# Altium schematic symbol library TSHG6200.SchLib: 1 symbol
Pins are listed as number, name and electrical type; pins without a type are passive.

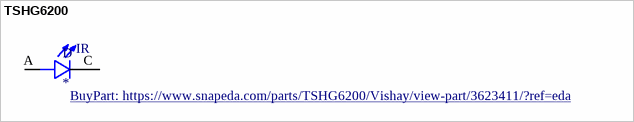
[diagram p0: symbol TSHG6200]

## TSHG6200
designator D
Infrared Emitter 850nm 1800mW/sr Circular Top Mount 2-Pin T-1 3/4; MP: TSHG6200; MF: Vishay; Package: Radial Vishay; Mouser-Purchase-URL: https://snapeda.com/shop?store=Mouser&id=3623411; SnapEDA_Link: https://www.snapeda.com/parts/TSHG6200/Vishay/view-part/3623411/?ref=snap; Availability: Good; Price: None; Value: *; DigiKey-Purchase-URL: https://snapeda.com/shop?store=DigiKey&id=3623411; BuyPart: https://www.snapeda.com/parts/TSHG6200/Vishay/view-part/3623411/?ref=eda
footprint LEDRD254W55D595H900
pins: A, C
text: IR